# Altium schematic symbol library JDY-31.SchLib: 1 symbol
Pins are listed as number, name and electrical type; pins without a type are passive.

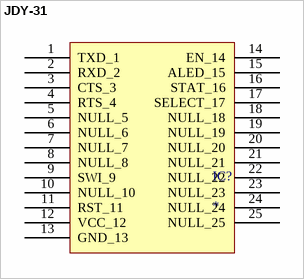
[diagram p0: symbol JDY-31]

## JDY-31
designator IC?
footprint JDY-31_PCB
pins: 1 TXD_1, 2 RXD_2, 3 CTS_3, 4 RTS_4, 5 NULL_5, 6 NULL_6, 7 NULL_7, 8 NULL_8, 9 SWI_9, 10 NULL_10, 11 RST_11, 12 VCC_12, 13 GND_13, 14 EN_14, 15 ALED_15, 16 STAT_16, 17 SELECT_17, 18 NULL_18, 19 NULL_19, 20 NULL_20, 21 NULL_21, 22 NULL_22, 23 NULL_23, 24 NULL_24, 25 NULL_25